# Altium schematic symbol library Alim.SCHLIB: 11 symbols
Pins are listed as number, name and electrical type; pins without a type are passive.

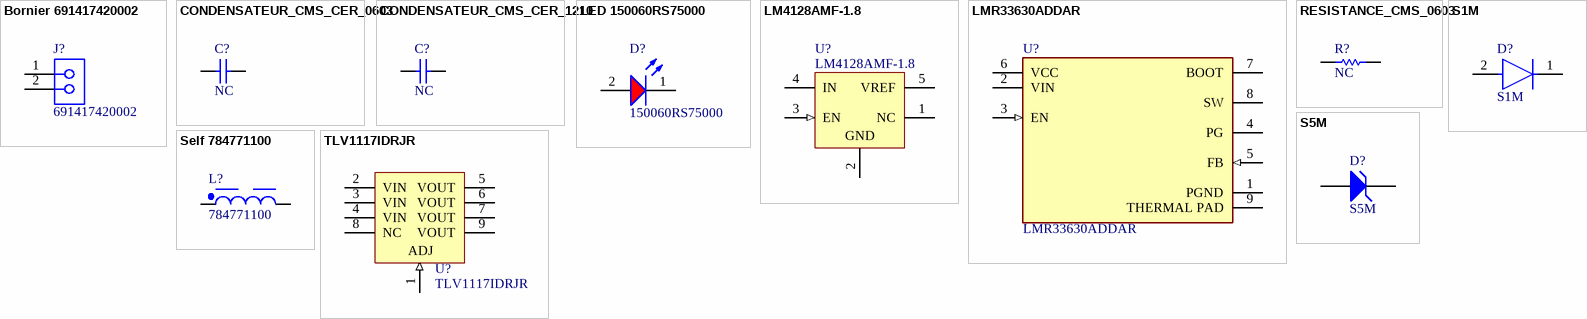
[diagram p0: symbols Bornier 691417420002 to TLV1117IDRJR]

## Bornier 691417420002
designator J?, comment 691417420002
Bornier poussoir 7,62mm; NexarPartId: 105951396; Manufacturer 1: Wurth Electronics; Manufacturer Part Number 1: 691417420002
footprint 691417420002 (Terminal Block, Wtb, 2Way, 30-16Awg Rohs Compliant: Yes)
pins: 1, 2

## CONDENSATEUR_CMS_CER_0603
designator C?, comment value NC  (hidden comment: CMS_0603)
CONDENSATEUR CMS CERAMIQUE 0603; Type: CMS_0603
simulation model CAP (Capacitor)
signal-integrity model Cap
footprint CONDENSATEUR_CMS_0603 (CONDENSATEUR CMS 0603 ; DIMENSIONS : 1.6mm x 0.86mm)
pins: 1, 2

## CONDENSATEUR_CMS_CER_1210
designator C?, comment value NC  (hidden comment: CMS_1210)
CONDENSATEUR CMS CERAMIQUE 1210; Type: CMS_1210
simulation model CAP (Capacitor)
signal-integrity model Cap
footprint CONDENSATEUR_CMS_1210 (CONDENSATEUR CMS 1210 ; DIMENSIONS : 3.2mm x 2.5mm)
pins: 1, 2

## LED 150060RS75000
designator D?, comment 150060RS75000
LED 0603 Générique; NexarPartId: 29717776; Manufacturer 1: Wurth Electronics; Color: Red; Power Dissipation: 72mW; Max Reverse Voltage (DC): 5V; Peak Wavelength: 630nm; Viewing Angle: 140°; Forward Voltage: 2V; Luminous Intensity: 250mcd; Forward Current: 100mA; Dominant Wavelength: 625nm; Lens Style: Clear, Rectangular; Max Junction Temperature (Tj): 95°C; Test Current: 20mA; Mount: Surface Mount; Packaging: Tape and Reel; Case Code (Metric): 1608; Max Operating Temperature: 85°C; Case Code (Imperial): 0603; REACH SVHC: Unknown; Width: 800µm; Length: 1.6mm; Reverse Voltage: 5V; Height: 700µm; Case/Package: 0603; RoHS: Compliant; Wavelength: 625nm; Min Operating Temperature: -40°C; Manufacturer Part Number 1: 150060RS75000
footprint LED_0603 (SMD Mono-color Chip LED, body 1.6x0.8mm)
pins: 1 K, 2 A

## LM4128AMF-1.8
designator U?
Precision Micropower Series Voltage Reference, 5-pin SOT-23; Manufacturer: National Semiconductor; Manufacturer 1: TI National Semiconductor; PowerWise: Y; PackageTopMarking: R5AA*XTT; CompType: Voltage Reference IC; ComponentLink2URL: http://www.national.com/pf/LM/LM4128.html; RevisionNote: Component URLs added; PackageReference: MF05A; ComponentLink2Description: LM4128 Web Page; PackageVersion: revD, Aug-2008; DatasheetVersion: Nov-2006; ComponentLink1URL: http://www.national.com/ds/LM/LM4128.pdf; PinCount: 5; ComponentLink1Description: LM4128 Datasheet; RoHS: N; ComponentLink3Description: MF05A Package Page; ComponentLink3URL: http://www.national.com/packaging/folders/mf05a.html; PackageDescription: Molded SOT-23, .115 x .063 x .040 in Body, 5 Lead, .0375 in Pitch; Manufacturer Part Number 1: LM4128AMF-1.8
footprint SOT23-5 (SOT23, 5-Leads, Body 2.9x1.6mm, Pitch 0.95mm, Lead Span 2.8mm, IPC Medium Density)
pins: 1 NC, 2 GND (power), 3 EN (in), 4 IN (power), 5 VREF (power)

## LMR33630ADDAR
designator U?
IC REG BUCK ADJUSTABLE 3A 8SOPWR; Manufacturer 1: Texas Instruments; Switching Frequency: 400kHz; Number of Outputs: 1; Output Configuration: Positive; Synchronous Rectifier: Yes; Min Output Voltage: 1V; Max Output Voltage: 24V; Max Input Voltage: 36V; Min Input Voltage: 3.8V; Output Current: 3A; Min Operating Temperature: -40°C; Max Operating Temperature: 125°C; Number of Pins: 8; RoHS Compliant: Yes; Mount: Surface Mount; Output Type: Adjustable; Packaging: Cut Tape; Manufacturer Part Number 1: LMR33630ADDAR
footprint HSOIC (SOIC with power pad)
pins: 1 PGND (power), 2 VIN (power), 3 EN (in), 4 PG (oc), 5 FB (in), 6 VCC (power), 7 BOOT, 8 SW, 9 THERMAL PAD

## RESISTANCE_CMS_0603
designator R?  value NC  (hidden comment: RESISTANCE_CMS_0603)
RESISTANCE CMS 0603; Type: CMS_0603
simulation model RESISTOR (Resistor)
signal-integrity model Res
footprint RESISTANCE_CMS_0603 (RESISTANCE CMS 0603 ; DIMENSIONS : 1.6mm x 0.8mm)
pins: 1, 2

## S1M
designator D?
DIODE GEN PURP 1KV 1A SMA; Manufacturer 1: ON Semiconductor / Fairchild; Element Configuration: Single; Peak Non-Repetitive Surge Current: 30A; Polarity: Standard; Max Surge Current: 40A; Forward Voltage: 1.1V; Capacitance: 12pF; Power Dissipation: 1.4W; Reverse Recovery Time: 1.8us; Peak Reverse Current: 1uA; Recovery Time: 1800ns; Contact Plating: Tin; Termination: SMD/SMT; Forward Current: 1A; Case/Package: SMA; Package Quantity: 1; Length: 4.75mm; Lead Free: Lead Free; Max Reverse Voltage (DC): 1kV; Reverse Voltage: 1kV; Height: 2.2mm; Current Rating: 1A; Number of Pins: 2; Max Operating Temperature: 150°C; Mount: Surface Mount; Max Forward Surge Current (Ifsm): 30A; Width: 5.28mm; Max Repetitive Reverse Voltage (Vrrm): 1kV; Current: 1A; Voltage: 1kV; Voltage Rating (DC): 1kV; REACH SVHC: No SVHC; Min Operating Temperature: -55°C; Packaging: Tape and Reel; Output Current: 1A; Radiation Hardening: No; Average Rectified Current: 1A; Manufacturer Part Number 1: S1M
footprint DO-214AC (SMD Doide)
pins: 1 C, 2 A

## S5M
designator D?
Transient Voltage Suppression Diode, 30 V, -65 to 150 degC, 2-Pin DO-214AB (SMCJ), RoHS, Tape and Reel; Manufacturer: Littelfuse-Inc.; Manufacturer 1: Littelfuse; Manufacturer Part Number 1: SMCJ30A; Current - Peak Pulse (10/1000µs): 31A; Voltage - Reverse Standoff (Typ): 30V; Type: Zener; Voltage - Breakdown (Min): 33.3V; Voltage - Clamping (Max) @ Ipp: 48.4V; Power - Peak Pulse: 1500W(1.5kW); Power Line Protection: No; Unidirectional Channels: 1; Capacitance @ Frequency: -; Package / Case: DO-214AB,SMC; Supplier Device Package: DO-214AB(SMCJ); Mounting Type: SurfaceMount; Series: SMCJ; Package Description: 2-Pin Surface Mount Device, Body 6.855 x 5.905 mm; Packaging: Digi-Reel®; Mounting Technology: SurfaceMount; Applications: GeneralPurpose; Operating Temperature: -55°C~150°C(TJ); Datasheet Version: 11/2015; Family: TVS-Diodes; Manufacturer URL: http://www.littelfuse.com/; Category: CircuitProtection; Bidirectional Channels: -; Datasheet URL: http://www.littelfuse.com/products/tvs-diodes/surface-mount/~/media/electronics/datasheets/tvs_diodes/littelfuse_tvs_diode_smcj_datasheet.pdf.pdf; Package Reference: DO-214AB
footprint DO-214AB (Molded Diode, 2-Leads, Body 7.11x6.22mm)
pins: 1 A, 2 K

## Self 784771100
designator L?, comment 784771100
784771100 Inductor, Aec-Q200, 10Uh, Shld, 5A Rohs Compliant: Yes; NexarPartId: 56466860; Manufacturer 1: Wurth Electronics; DC Resistance (DCR): 22mΩ; Core Material: Ferrite; Saturation Current: 5.25A; Self Resonant Frequency: 22.3MHz; Inductance: 10µH; Tolerance: 20%; Test Frequency: 100kHz; Shielding: Shielded; Height - Seated (Max): 6.2992mm; Ambient Temperature Range High: 85°C; Height: 6mm; Mount: Surface Mount; RoHS: Compliant; Length: 12mm; Composition: Wirewound; Min Operating Temperature: -40°C; Current Rating: 5A; Max Operating Temperature: 125°C; Width: 12mm; Ambient Temperature Range Low: -40°C; Case/Package: Nonstandard; Number of Pins: 2; Ratings: AEC-Q200; Manufacturer Part Number 1: 784771100
footprint WE-PDA_1260 (Power Inductor, 1Uh, Shielded, 9A Rohs Compliant: Yes)
pins: 1, 2

## TLV1117IDRJR
designator U?
LDO with 2.7 to 15 V Input and 1.25 to 13.7 V Output, -40 to 125 degC, 8-Pin SON (DRJ), Green (RoHS & no Sb/Br); Manufacturer: Texas Instruments; Vout(Max)(V): 13.7; Vout(Min)(V): 1.25; Vin(Min)(V): 2.7; Iq(Typ)(mA): 5; Iout(Max)(A): 0.8; Vin(Max)(V): 15; ComponentLink3URL: Samples URL:http://www.ti.com/product/tlv1117#samples; PackageVersion: revC, Dec-2010; ComponentLink2URL: http://www.ti.com/litv/pdf/mpds153b; PackageDescription: 8-Pin Plastic Small Outline No-Lead, 4 x 4 x 0.8 mm Body, 0.8 mm Pitch, Exposed Pad; DatasheetVersion: SLVS561J; PartNumber: TLV1117IDRJR; ComponentLink3Description: URL Link1; Eco-Plan: Green (RoHS & no Sb/Br); ComponentLink1URL: http://www.ti.com/general/docs/lit/getliterature.tsp?genericPartNumber=TLV1117&fileType=pdf; Mounting Technology: Surface Mount; ComponentLink2Description: Package Specification; PackageReference: DRJ0008A; ComponentLink1Description: Datasheet; Manufacturer 1: Texas Instruments; Manufacturer Part Number 1: TLV1117IDRJR
footprint WSON-8 (SON, 8-Leads, Body 4x4mm, Pitch 0.8mm, Thermal Pad 3x2.2mm, TI Recommended)
pins: 1 ADJ (in), 2 VIN (power), 3 VIN (power), 4 VIN (power), 5 VOUT (power), 6 VOUT (power), 7 VOUT (power), 8 NC, 9 VOUT (power)